# EAGLE library part S18B-PUDSS-1 (library con-jst-pud)
JST connector, PUD series, 2.0mm spacing, crimp style, wire-to-board, 18 pin, side entry
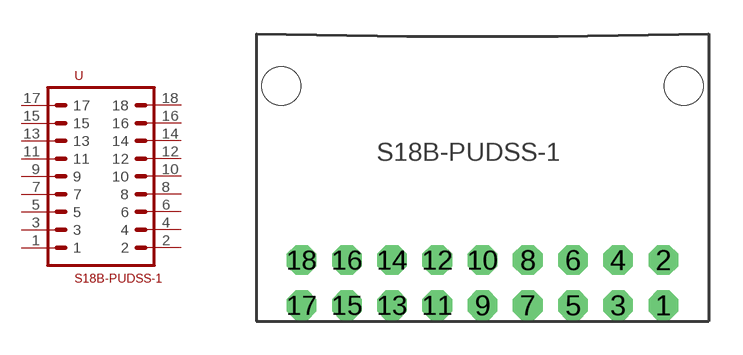
[diagram p5: symbol with the pads of PUD_18_PIN_SIDE_ENTRY; footprint PUD_18_PIN_SIDE_ENTRY]

Designator prefix -

## S18B-PUDSS-1 (DIGIKEY: 455-2490-ND; MF: JST; MPN: S18B-PUDSS-1)  [PUD_18_PIN_SIDE_ENTRY]
1  1
2  2
3  3
4  4
5  5
6  6
7  7
8  8
9  9
10  10
11  11
12  12
13  13
14  14
15  15
16  16
17  17
18  18

## Footprint PUD_18_PIN_SIDE_ENTRY (pad centres in mm)
drill 0.8 octagon: 1 8,-6; 2 8,-4; 3 6,-6; 4 6,-4; 5 4,-6; 6 4,-4; 7 2,-6; 8 2,-4; 9 0,-6; 10 0,-4; 11 -2,-6; 12 -2,-4; 13 -4,-6; 14 -4,-4; 15 -6,-6; 16 -6,-4; 17 -8,-6; 18 -8,-4
hole 1.7 at 8.9,3.7
hole 1.7 at -8.9,3.7